# Altium schematic symbol library XTAL.SchLib: 6 symbols
Pins are listed as number, name and electrical type; pins without a type are passive.

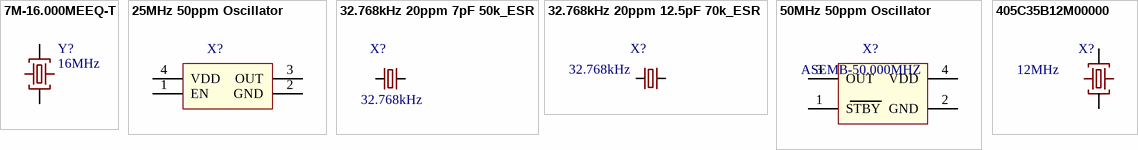
[diagram p0: symbols 7M-16.000MEEQ-T to 405C35B12M00000]

## 7M-16.000MEEQ-T
designator Y?  value 16MHz  (hidden comment: 7M-16.000MEEQ-T)
Crystal 16mHz 10ppm 10pF; Manufacturer: TXC; Part Description: CRYSTAL 16.0000MHZ 10PF SMD; EE_SPEC: 10ppm 10pF 80R; MANUFACTURER #: 7M-16.000MEEQ-T; DISTRIBUTOR #: 887-1319-2-ND; DISTRIBUTOR: Digi-Key; PART: 16MHz; Tolerance: 10ppm
footprint CRYS320250
pins: 1 C1, 2 GND, 3 C2, 4 GND

## 25MHz 50ppm Oscillator
designator X?, comment 25MHz  (value not drawn)
XTAL OSC XO 25.0000MHZ CMOS SMD; MANUFACTURER: Kyocera; MANUFACTURER #: KC2520B25.0000C10E00; PART DESCRIPTION: 25MHz XO (Standard) CMOS Oscillator 1.6V ~ 3.63V Standby (Power Down) 4-SMD, No Lead; TOLERANCE: 50ppm; EE_SPEC: 25MHz 1.6-3.63V; PART: KC2520B25.0000C10E00; VALUE: 25MHz
footprint Oscillator 2.5x2mm (DFN, 4-Leads, Body 2.00x2.50mm, Pitch 1.60mm, IPC Medium Density)
pins: 1 EN (power) "1", 2 GND (power) "1", 3 OUT (power) "1", 4 VDD (power) "1"

## 32.768kHz 20ppm 7pF 50k_ESR
designator X?, comment 32.768kHz
CRYSTAL 32.768KHZ 7PF SMD; MANUFACTURER: ECS; MANUFACTURER #: ECS-.327-7-34R-TR; PART DESCRIPTION: 32.768kHz ±20ppm Crystal 7pF 50 kOhm -40°C ~ 85°C Surface Mount 2-SMD, No Lead; TOLERANCE: 20ppm; EE_SPEC: 32.768kHz 20ppm 7pF 50k_ESR; DISTRIBUTOR #: XC2126TR-ND; DISTRIBUTOR: Digikey; PART: 32.768kHz; VALUE: 32.768kHz
footprint XTAL_32X15_2
pins: 1 C1, 2 C2

## 32.768kHz 20ppm 12.5pF 70k_ESR
designator X?, comment 32.768kHz
CRYSTAL 32.768KHZ 12.5PF SMD; MANUFACTURER: NDK; MANUFACTURER #: NX3215SA-32.768K-STD-MUA-8; PART DESCRIPTION: 32.768kHz ±20ppm Crystal 12.5pF 70 kOhms 2-SMD, No Lead; TOLERANCE: 20ppm; EE_SPEC: 32.768kHz 20ppm 12.5pF 70k_ESR; PART: NX3215SA-32.768K-STD-MUA-8; VALUE: 32.768kHz
footprint XTAL_32X15_2
pins: 1 C1, 2 C2

## 50MHz 50ppm Oscillator
designator X?, comment ASEMB-50.000MHZ
MEMS OSC XO 50.0000MHZ CMOS SMD; MANUFACTURER: Abracon; MANUFACTURER #: ASEMB-50.000MHZ-LC-T; PART DESCRIPTION: 50MHz XO (Standard) CMOS Oscillator 1.8V ~ 3.3V Enable/Disable 4-SMD, No Lead; TOLERANCE: 50ppm; EE_SPEC: 50MHz 1.8-3.3V; PART: ASEMB-50.000MHZ-LC-T; VALUE: ASEMB-50.000MHZ
footprint OSC-3.2x2.5mmx0.85mm (Asemb)
pins: 1 STBY (power) "1", 2 GND (power) "1", 3 OUT (power) "1", 4 VDD (power) "1"

## 405C35B12M00000
designator X?, comment 12MHz
Crystal 12MHz ±30ppm (Tol) ±50ppm (Stability) 13pF FUND 50Ohm; MANUFACTURER: CTS; MANUFACTURER #: 405C35B12M00000; PART: 12MHz XTAL; PART DESCRIPTION: 12MHz ±30ppm Crystal 13pF 60 Ohm -20°C ~ 70°C Surface Mount 4-SMD, No Lead (DFN, LCC); TOLERANCE: +/- 30ppm; EE_SPEC: -NA-; DISTRIBUTOR #: CTX639TR-ND; DISTRIBUTOR: Digikey; VALUE: 12MHz
footprint CRYS320500
pins: 1 C1, 2 GND, 3 C2, 4 GND